# Altium schematic symbol library CustomSchematics.SchLib: 5 symbols
Pins are listed as number, name and electrical type; pins without a type are passive.

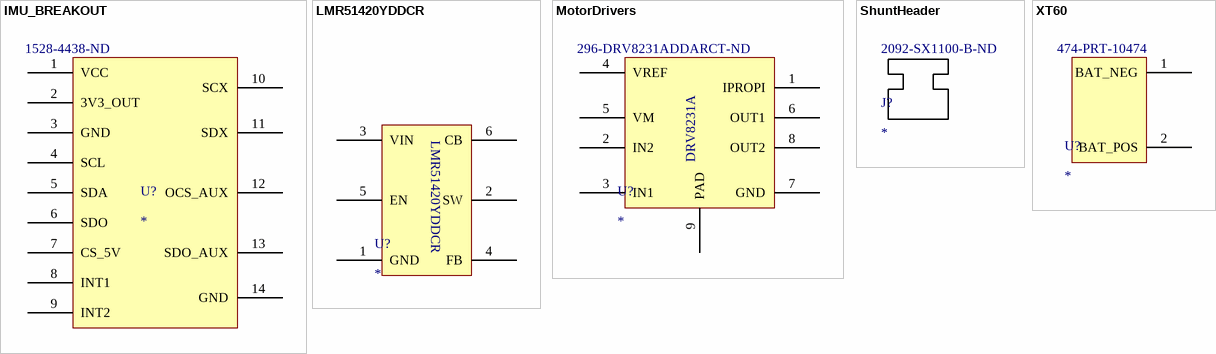
[diagram p0: symbols IMU_BREAKOUT to XT60]

## IMU_BREAKOUT
designator U?  Supplier Part Number 1: 1528-4438-ND
Manufacturer: Adafruit Industries; Manufacturer Part Number: 4438; Supplier 1: Digi-Key; RoHS: No; Stock 1: 23; Pricing 1: 1=11.95000 (USD)
footprint IMU_BREAKOUT
pins: 1 VCC, 2 3V3_OUT, 3 GND, 4 SCL, 5 SDA, 6 SDO, 7 CS_5V, 8 INT1, 9 INT2, 10 SCX, 11 SDX, 12 OCS_AUX, 13 SDO_AUX, 14 GND

## LMR51420YDDCR
designator U?
SIMPLE SWITCHER® power converter 4.5-V to 36-V, 2-A, synchronous buck with 40-µA IQ 6-SOT-23-THIN -40 to 150; Manufacturer: Texas Instruments; Manufacturer Part Number: LMR51420YDDCR; Supplier 1: Mouser; RoHS: No; Category: Integrated Circuits (ICs); Stock 1: 4911; Pricing 1: 1=1.56000, 10=1.41000, 25=1.33000, 50=1.33000, 100=1.13000, 250=1.06000, 500=0.92800, 1000=0.77000, 3000=0.76900, 10000=0.76900 (USD); Supplier Part Number 1: 595-LMR51420YDDCR; Supplier 2: Digi-Key; Stock 2: 5954; Pricing 2: 1=1.56000, 10=1.40400, 25=1.32480, 100=1.12890, 250=1.06000, 500=0.92750, 1000=0.76850 (USD); Supplier Part Number 2: 296-LMR51420YDDCRCT-ND
footprint BUCK_REG_FOOTPRINT_SOT95P280X110-6N (SOT23, 6-Leads, Body 2.90x2.80mm, Pitch 0.95mm, IPC Medium Density)
pins: 1 GND, 2 SW, 3 VIN, 4 FB, 5 EN, 6 CB

## MotorDrivers
designator U?  Supplier Part Number 1: 296-DRV8231ADDARCT-ND
35-V, 3.7-A H-bridge motor driver with integrated current regulation & current-sense feedback 8-SO PowerPAD -40 to 150; Manufacturer: Texas Instruments; Manufacturer Part Number: DRV8231ADDAR; Supplier 1: Digi-Key; RoHS: No; Category: Integrated Circuits (ICs); Stock 1: 2557; Pricing 1: 1=2.00000, 10=1.79200, 25=1.69080, 100=1.44050, 250=1.35256, 500=1.18348, 1000=0.98061 (USD)
footprint SOIC127P600X170_HS-9N (SOIC, 8-Leads, Body 4.90x3.90mm, Pitch 1.27mm, Thermal Pad 3.40x2.71mm, IPC Medium Density)
pins: 1 IPROPI, 2 IN2, 3 IN1, 4 VREF, 5 VM, 6 OUT1, 7 GND, 8 OUT2, 9 PAD
text: DRV8231A

## ShuntHeader
designator J?  Supplier Part Number 1: 2092-SX1100-B-ND
Conn Mini Shunt 2 POS 2.54mm Black Cable Mount; Manufacturer: Kycon; Manufacturer Part Number: SX1100-B; Current Rating: 3A; Number of Positions: 2; Insulation Resistance: 1GR; Supplier 1: Digi-Key; RoHS: Yes; Category: Headers and Wire Housings; Stock 1: 85316; Pricing 1: 1=0.10000, 10=0.06000, 25=0.04920, 50=0.04540, 100=0.04390, 250=0.03788, 500=0.03636, 1000=0.03182, 2500=0.02878 (USD); Contact Plating: Gold; Contact Material: Bronze; Housing Material: Thermoplastic; Min Operating Temperature: -55°C; Max Operating Temperature: 125°C; Number of Rows: 1; Contact Gender: Female; Packaging: Bulk; Pitch: 2.54mm; Flammability Rating: UL94 V-0; RoHS Compliant: Yes; ComponentLink1URL: http://www.mouser.com/ds/2/222/SX1100-B-461401.pdf?src-supplier=Mouser; ComponentLink1Description: http://www.mouser.com/ds/2/222/SX1100-B-461401.pdf?src-supplier=Mouser

## XT60
designator U?  Supplier Part Number 1: 474-PRT-10474
XT60 Connectors Male/female Pair; Manufacturer: SparkFun; Manufacturer Part Number: PRT-10474; Supplier 1: Mouser; RoHS: No; Category: Headers and Wire Housings; Stock 1: 1468; Pricing 1: 1=1.50000, 10=1.50000, 50=1.50000, 100=1.50000, 1000=1.50000, 10000=1.50000 (USD); ComponentLink1URL: https://cdn.sparkfun.com/datasheets/Prototyping/xt60.pdf?src-supplier=Digi-Key; ComponentLink1Description: https://cdn.sparkfun.com/datasheets/Prototyping/xt60.pdf?src-supplier=Digi-Key
footprint XT60
pins: 1 BAT_NEG, 2 BAT_POS